# Altium footprint library Antenna.PcbLib: 15 footprints
Each footprint in its own frame and in the unit in brackets; x right, y up, seen from the top. Pads: shape width x height; smd on the part's side, far side on the other; paste and mask are expansions set on the pad; w line width, h text height; cw(c..) or ccw(c..) is an arc to the next point about the centre after c.
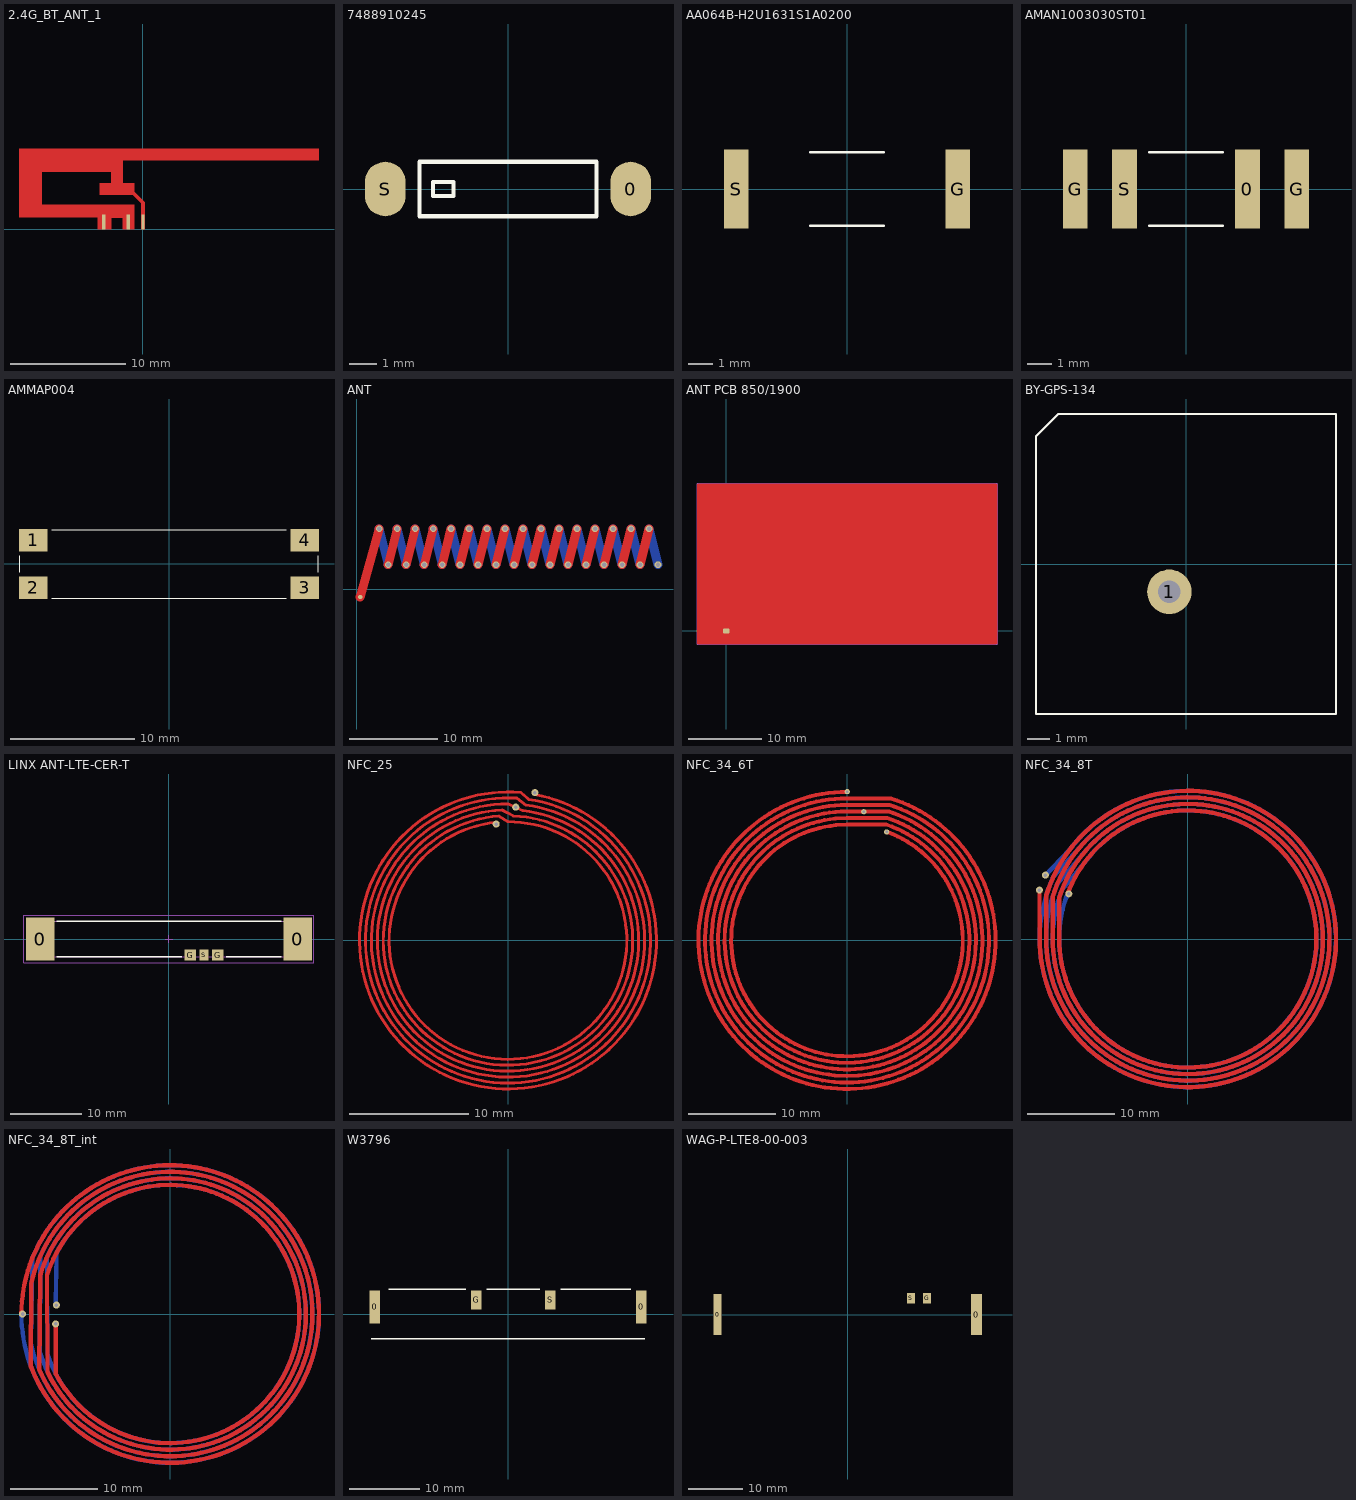
[diagram p0: the footprints below, top view; thin cyan lines are the x and y axes]

## 2.4G_BT_ANT_1 [mil]
pads (3):
  rect 11.8x51.2 smd: 1(0,26) 2(-51,26) 3(-134,26)
Top Layer:
  region: -422.9,275.6 600.39,275.59 600.39,236.22 -68.9,236.22 -68.9,157.48 -29.53,157.48 -29.53,127.95 5.91,92.52 5.91,0 -5.91,0 -5.91,88.58 -35.43,118.11 -148.1,118.1 -148.1,157.4 -108.7,157.4 -108.7,196.8 -344.9,196.8 -344.9,84 -29.9,84 -29.9,0 -69.3,0 -69.3,39.3 -108.7,39.3 -108.7,0 -153.9,0 -153.9,42 -422.9,42

## 7488910245 [mm]
pads (2):
  oval 1.5x2 smd: 0(4.5,0) S(-4.5,0)
Top Overlay:
  lines w0.15: -3.25,-1 -3.25,1 3.25,1 3.25,-1 -3.25,-1 ; -2.75,-0.25 -2.75,0.25 -2,0.25 -2,-0.25 -2.75,-0.25
3D body "User Library-ANTENNA_WLAN.step": height 1.05, standoff 0.01, extent -4.77,-1.02 4.77,1.02

## AA064B-H2U1631S1A0200 [mm]
pads (2):
  rect 1x3.2 smd: G(4.5,0) S(-4.5,0)
Top Overlay:
  lines w0.1: -1.5,-1.5 1.5,-1.5 ; -1.5,1.5 1.5,1.5
3D body: height 3, standoff 0, extent -5,-1.5 5,1.5

## AMAN1003030ST01 [mm]
pads (4):
  rect 1x3.2 smd: 0(2.5,0) G(-4.5,0) G(4.5,0) S(-2.5,0)
Top Overlay:
  lines w0.1: -1.5,-1.5 1.5,-1.5 ; -1.5,1.5 1.5,1.5
3D body: height 3, standoff 0, extent -5,-1.5 5,1.5

## AMMAP004 [mm]
pads (4):
  rect 2.3x1.8 smd: 1(-10.9,1.9) 2(-10.9,-1.9) 3(10.9,-1.9) 4(10.9,1.9)
Top Overlay:
  lines w0.1: -12,-0.65 -12,0.65 ; -9.4,-2.75 9.4,-2.75 ; -9.4,2.75 9.4,2.75 ; 12,-0.65 12,0.65
3D body: height 4.4, standoff 0, extent -12,-2.75 12,2.75

## ANT [mm]
pads (1):
  round 0.5 smd: 1(0.4,-0.85)
via 32.004,2.794 diameter 0.762 hole 0.508
via 29.972,2.794 diameter 0.762 hole 0.508
via 2.54,6.858 diameter 0.762 hole 0.508
via 4.572,6.858 diameter 0.762 hole 0.508
via 6.604,6.858 diameter 0.762 hole 0.508
via 8.636,6.858 diameter 0.762 hole 0.508
via 10.668,6.858 diameter 0.762 hole 0.508
via 12.7,6.858 diameter 0.762 hole 0.508
via 14.732,6.858 diameter 0.762 hole 0.508
via 16.764,6.858 diameter 0.762 hole 0.508
via 18.796,6.858 diameter 0.762 hole 0.508
via 20.828,6.858 diameter 0.762 hole 0.508
via 22.86,6.858 diameter 0.762 hole 0.508
via 24.892,6.858 diameter 0.762 hole 0.508
via 26.924,6.858 diameter 0.762 hole 0.508
via 28.956,6.858 diameter 0.762 hole 0.508
via 30.988,6.858 diameter 0.762 hole 0.508
via 33.02,6.858 diameter 0.762 hole 0.508
via 34.036,2.794 diameter 0.762 hole 0.508
via 27.94,2.794 diameter 0.762 hole 0.508
via 25.908,2.794 diameter 0.762 hole 0.508
via 23.876,2.794 diameter 0.762 hole 0.508
via 21.844,2.794 diameter 0.762 hole 0.508
via 19.812,2.794 diameter 0.762 hole 0.508
via 17.78,2.794 diameter 0.762 hole 0.508
via 15.748,2.794 diameter 0.762 hole 0.508
via 13.716,2.794 diameter 0.762 hole 0.508
via 11.684,2.794 diameter 0.762 hole 0.508
via 9.652,2.794 diameter 0.762 hole 0.508
via 7.62,2.794 diameter 0.762 hole 0.508
via 5.588,2.794 diameter 0.762 hole 0.508
via 3.556,2.794 diameter 0.762 hole 0.508
Top Layer:
  lines w1.016: 0.4,-0.85 2.54,6.858 ; 3.556,2.794 4.572,6.858 ; 5.588,2.794 6.604,6.858 ; 7.62,2.794 8.636,6.858 ; 9.652,2.794 10.668,6.858 ; 11.684,2.794 12.7,6.858 ; 13.716,2.794 14.732,6.858 ; 15.748,2.794 16.764,6.858 ; 17.78,2.794 18.796,6.858 ; 19.812,2.794 20.828,6.858 ; 21.844,2.794 22.86,6.858 ; 23.876,2.794 24.892,6.858 ; 25.908,2.794 26.924,6.858 ; 27.94,2.794 28.956,6.858 ; 29.972,2.794 30.988,6.858 ; 32.004,2.794 33.02,6.858
Bottom Layer:
  lines w1.016: 2.54,6.858 3.556,2.794 ; 4.572,6.858 5.588,2.794 ; 6.604,6.858 7.62,2.794 ; 8.636,6.858 9.652,2.794 ; 10.668,6.858 11.684,2.794 ; 12.7,6.858 13.716,2.794 ; 14.732,6.858 15.748,2.794 ; 16.764,6.858 17.78,2.794 ; 18.796,6.858 19.812,2.794 ; 20.828,6.858 21.844,2.794 ; 22.86,6.858 23.876,2.794 ; 24.892,6.858 25.908,2.794 ; 26.924,6.858 27.94,2.794 ; 28.956,6.858 29.972,2.794 ; 30.988,6.858 32.004,2.794 ; 33.02,6.858 34.036,2.794

## ANT PCB 850/1900 [mm]
pads (1):
  rrect50% 0.9x0.7 smd: 1(0,-0.001)
Top Layer:
  region: 11.801,7.649 11.701,7.549 11.701,3.749 11.801,3.649 12.601,3.649 12.701,3.749 12.701,7.549 12.601,7.649
  region: 13.001,7.649 12.901,7.549 12.901,3.749 13.001,3.649 13.801,3.649 13.901,3.749 13.901,7.549 13.801,7.649
  region: 14.201,7.649 14.101,7.549 14.101,3.749 14.201,3.649 15.001,3.649 15.101,3.749 15.101,7.549 15.001,7.649
  region: 10.601,7.649 10.501,7.549 10.501,3.749 10.601,3.649 11.401,3.649 11.501,3.749 11.501,7.549 11.401,7.649
  region: 15.401,7.649 15.301,7.549 15.301,3.749 15.401,3.649 16.201,3.649 16.301,3.749 16.301,7.549 16.201,7.649
  region: 16.601,7.649 16.501,7.549 16.501,3.749 16.601,3.649 17.401,3.649 17.501,3.749 17.501,7.549 17.401,7.649
  region: 17.801,7.649 17.701,7.549 17.701,3.749 17.801,3.649 18.601,3.649 18.701,3.749 18.701,7.549 18.601,7.649
  region: 20.501,13.649 20.401,13.549 20.401,8.749 20.501,8.649 21.301,8.649 21.401,8.749 21.401,13.549 21.301,13.649
  region: 21.701,13.649 21.601,13.549 21.601,8.749 21.701,8.649 22.501,8.649 22.601,8.749 22.601,13.549 22.501,13.649
  region: 24.101,13.649 24.001,13.549 24.001,8.749 24.101,8.649 24.901,8.649 25.001,8.749 25.001,13.549 24.901,13.649
  region: 22.901,13.649 22.801,13.549 22.801,8.749 22.901,8.649 23.701,8.649 23.801,8.749 23.801,13.549 23.701,13.649
  region: -1.499,-0.251 -1.399,-0.351 1.401,-0.351 1.501,-0.251 1.501,2.608 1.53,2.678 2.472,3.62 2.542,3.649 5.901,3.649 6.001,3.749 6.001,6.108 6.03,6.178 9.472,9.62 9.542,9.649 13.96,9.649 14.03,9.62 14.972,8.678 15.042,8.649 20.101,8.649 20.201,8.749 20.201,13.549 20.101,13.649 8.039,13.649 7.972,13.623 3.168,9.299 3.001,9.374 3.001,10.604 3.035,10.679 7.473,14.624 7.539,14.649 25.901,14.649 26.001,14.549 26.001,7.749 25.901,7.649 19.001,7.649 18.901,7.549 18.901,3.749 19.001,3.649 29.901,3.649 30.001,3.749 30.001,18.549 29.901,18.649 0.901,18.649 -0.299,18.327 -1.177,17.449 -1.499,16.249
  pour cut-out: 36.901,-1.851 37.001,-1.751 37.001,20.049 36.901,20.149 -3.899,20.149 -3.999,20.049 -3.999,-1.751 -3.899,-1.851
Bottom Layer:
  pour cut-out: 36.901,-1.851 37.001,-1.751 37.001,20.049 36.901,20.149 -3.899,20.149 -3.999,20.049 -3.999,-1.751 -3.899,-1.851
Top Solder:
  region: 11.401,7.649 11.301,7.549 11.301,3.749 11.401,3.649 11.801,3.649 11.901,3.749 11.901,7.549 11.801,7.649
  region: 12.601,7.649 12.501,7.549 12.501,3.749 12.601,3.649 13.001,3.649 13.101,3.749 13.101,7.549 13.001,7.649
  region: 13.801,7.649 13.701,7.549 13.701,3.749 13.801,3.649 14.201,3.649 14.301,3.749 14.301,7.549 14.201,7.649
  region: 16.201,7.649 16.101,7.549 16.101,3.749 16.201,3.649 16.601,3.649 16.701,3.749 16.701,7.549 16.601,7.649
  region: 17.401,7.649 17.301,7.549 17.301,3.749 17.401,3.649 17.801,3.649 17.901,3.749 17.901,7.549 17.801,7.649
  region: 18.601,7.649 18.501,7.549 18.501,3.749 18.601,3.649 19.001,3.649 19.101,3.749 19.101,7.549 19.001,7.649
  region: 20.101,13.649 20.001,13.549 20.001,8.749 20.101,8.649 20.501,8.649 20.601,8.749 20.601,13.549 20.501,13.649
  region: 21.301,13.649 21.201,13.549 21.201,8.749 21.301,8.649 21.701,8.649 21.801,8.749 21.801,13.549 21.701,13.649
  region: 23.701,13.649 23.601,13.549 23.601,8.749 23.701,8.649 24.101,8.649 24.201,8.749 24.201,13.549 24.101,13.649
  region: 15.001,7.649 14.901,7.549 14.901,3.749 15.001,3.649 15.401,3.649 15.501,3.749 15.501,7.549 15.401,7.649
  region: 22.501,13.649 22.401,13.549 22.401,8.749 22.501,8.649 22.901,8.649 23.001,8.749 23.001,13.549 22.901,13.649
Mechanical 1:
  lines w0.2: 11.501,3.649 11.501,7.649 ; 11.701,3.649 11.701,7.649 ; 12.701,3.649 12.701,7.649 ; 12.901,3.649 12.901,7.649 ; 13.901,3.649 13.901,7.649 ; 14.101,3.649 14.101,7.649 ; 15.101,3.649 15.101,7.649 ; 15.301,3.649 15.301,7.649 ; 16.301,3.649 16.301,7.649 ; 16.501,3.649 16.501,7.649 ; 17.501,3.649 17.501,7.649 ; 17.701,3.649 17.701,7.649 ; 18.701,3.649 18.701,7.649 ; 18.901,3.649 18.901,7.649 ; 20.201,8.649 20.201,13.649 ; 20.401,8.649 20.401,13.649 ; 21.401,8.649 21.401,13.649 ; 21.601,8.649 21.601,13.649 ; 22.601,8.649 22.601,13.649 ; 22.801,8.649 22.801,13.649 ; 23.801,8.649 23.801,13.649 ; 24.001,8.649 24.001,13.649 ; -3.999,-1.851 -3.999,20.149 37.001,20.149 37.001,-1.851 -3.999,-1.851 ; -1.499,-0.351 -1.499,16.149 cw(c1.001,16.149) 1.001,18.649 30.001,18.649 30.001,3.649 10.501,3.649 10.501,7.649 26.001,7.649 26.001,14.649 7.501,14.649 3.001,10.649 3.001,9.149 8.001,13.649 25.001,13.649 25.001,8.649 15.001,8.649 14.001,9.649 9.501,9.649 6.001,6.149 6.001,3.649 2.501,3.649 1.501,2.649 1.501,-0.351 -1.499,-0.351

## BY-GPS-134 [mm]
pads (1):
  round 2 hole 1 unplated: 1(-0.75,-1.25)
Top Overlay:
  lines w0.1: -6.75,-6.75 6.75,-6.75 6.75,6.75 -5.75,6.75 -6.75,5.75 -6.75,-6.75
3D body: height 0, standoff -2.5, extent -1.147,-1.649 -0.35,-0.851
3D body "BY-GPS-134.STEP": height 4.02, standoff 0.02, extent -6.5,-6.5 6.5,6.5

## LINX ANT-LTE-CER-T [mm] "Antenna, 5-leads, Body 37x5x5mm,  IPC Medium Density"
height 5
pads (5):
  rect 4x6 smd: 0(-18,0) 0(18,0)
  rect 1.65x1.5 smd: G(2.975,-2.25) G(6.825,-2.25)
  rect 1.2x1.5 smd: S(4.9,-2.25)
Top Overlay:
  lines w0.2: -15.7,-2.5 1.8,-2.5 ; -15.7,2.5 15.7,2.5 ; 8,-2.5 15.7,-2.5
Mechanical 13:
  lines w0.1: -18.5,-2.5 18.5,-2.5 18.5,2.5 -18.5,2.5 -18.5,-2.5
Mechanical 15:
  lines w0.05: -20.3,-3.3 20.3,-3.3 20.3,3.3 -20.3,3.3 -20.3,-3.3
  lines w0.1: -0.5,0 0.5,0 ; 0,-0.5 0,0.5
3D body "Linx - ANT-LTE-CER-T.step": height 5.16, standoff 0, extent -18.5,-2.5 18.5,2.5

## NFC_25 [mm]
pads (3):
  round 0.6 hole 0.3 mask+0.102: 1(-0.998,9.796) 2(0.65,11.222) 3(2.267,12.45)
Top Layer:
  lines w0.25: -0.998,9.95 ccw(c0,0) 0,10 -0.749,10.473 ccw(c0,0) 0.43,10.491 -0.5,10.989 ccw(c0,0) 1.242,10.93 0,11.5 ccw(c0,0) 1.504,11.401 0.749,11.977 ccw(c0,0) 1.732,11.874 1.087,12.453 ccw(c0,0) 2.243,12.297

## NFC_34_6T [mm]
pads (3):
  round 0.6 hole 0.3 mask+0.102: 1(0.024,17.028) 2(1.926,14.73) 3(4.537,12.417)
Top Layer:
  lines w0.45: 0,17 ccw(c0,0) 5.027,16.24 ; 4.49,13.25 0,13.25 ccw(c0,0) 4.638,12.412 ; 4.554,13.239 cw(c0,0) 0,14 4.576,14 ; 4.604,14.013 cw(c0,0) 0,14.75 4.782,14.75 ; 4.782,14.744 cw(c0,0) 0,15.5 4.885,15.5 ; 4.885,15.499 cw(c0,0) 0,16.25 5.027,16.25

## NFC_34_8T [mm]
pads (3):
  round 0.8 hole 0.4 mask+0.102: 1(-17.022,5.613) 2(-13.651,5.182) 3(-16.339,7.335)
Top Layer:
  lines w0.5: -17.022,5.613 -17,0 ccw(c0,0) -16.245,5.011 ; -16.25,5.011 -16.25,0 ccw(c0,0) -15.491,4.91 ; -15.5,4.91 -15.5,0 ccw(c0,0) -14.744,4.782 ; -14.75,4.782 -14.75,0 ccw(c0,0) -13.79,5.235
Bottom Layer:
  lines w0.5: -16.4,7.2 -13.538,10.282 cw(c0,0) -15.4,7.2 -11.908,11.057 cw(c0,0) -14.982,6.293 -11.683,10.186 cw(c0,0) -14.412,5.705 -11.107,9.706 cw(c0,0) -13.79,5.235

## NFC_34_8T_int [mm]
pads (3):
  round 0.8 hole 0.4 mask+0.102: 1(-13.091,-1.138) 2(-16.875,0) 3(-12.996,1.013)
Top Layer:
  lines w0.5: -17,0 cw(c0,0) -15.935,-5.923 -15.872,3.486 cw(c0,0) -14.941,-6.389 -14.856,4.422 cw(c0,0) -14.023,-6.604 -14.071,4.422 cw(c0,0) -13.062,-6.851 -13.091,-1.138
Bottom Layer:
  lines w0.5: -17,0 ccw(c0,0) -15.779,6.328 -15.904,-3.338 ccw(c0,0) -14.846,6.607 -14.924,-4.185 ccw(c0,0) -14.075,6.491 -14.023,-4.575 ccw(c0,0) -12.996,6.977 -13.091,1.013

## W3796 [mm]
pads (4):
  rect 1.5x4.75 smd: 0(-19,1) 0(19,1)
  rect 1.5x2.75 smd: G(-4.5,2) S(6,2)
Top Overlay:
  lines w0.2: -19.5,-3.5 19.5,-3.5 ; -17,3.5 -6,3.5 ; -3,3.5 4.5,3.5 ; 7.5,3.5 17.5,3.5
3D body: height 3, standoff 0, extent -20,-3.5 20,3.5

## WAG-P-LTE8-00-003 [mm]
pads (4):
  rect 1.5x7.6 smd: 0(-24,0)
  rect 2x7.6 smd: 0(23.8,0)
  rect 1.5x2 smd: G(14.7,3) S(11.7,3)
3D body "WAG-P-LTE8-00-003.x_t": height 3.26, standoff 0.01, extent -25,-4 25,4